# EAGLE library part CP2102N-A01-GQFN28R (library SLJ_IC)
USB Bridge, USB to UART USB 2.0 UART Interface 28-QFN (5x5)
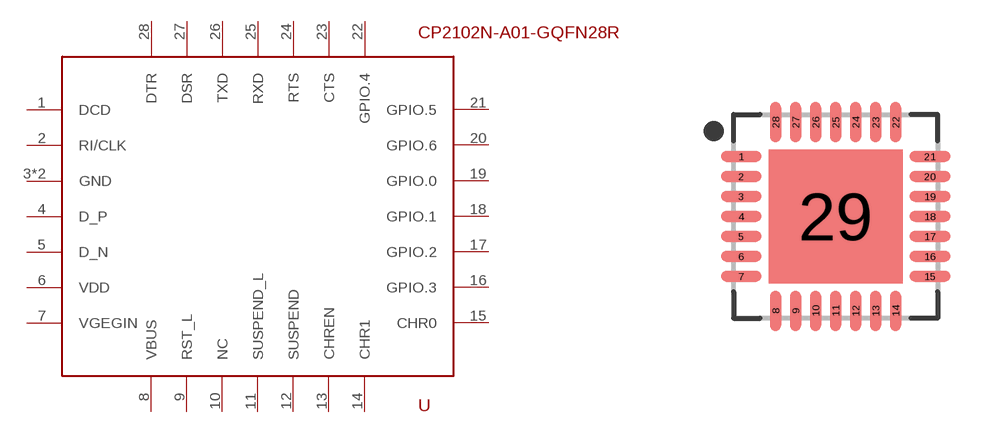
[diagram p1: symbol with the pads of QFN50P500X500X80-29T335; footprint QFN50P500X500X80-29T335]

Designator prefix U

## CP2102N-A01-GQFN28R (MANUFACTURER: Silicon Labs; PART_NUMBER: CP2102N-A01-GQFN28R)  [QFN50P500X500X80-29T335]
1  DCD  in
2  RI/CLK
3  GND  pwr
4  D_P
5  D_N
6  VDD  pwr
7  VGEGIN  pwr
8  VBUS  in
9  RST_L  in
10  NC  nc
11  SUSPEND_L  out
12  SUSPEND  out
13  CHREN  out
14  CHR1  out
15  CHR0  out
16  GPIO.3
17  GPIO.2
18  GPIO.1
19  GPIO.0
20  GPIO.6
21  GPIO.5
22  GPIO.4
23  CTS  in
24  RTS  out
25  RXD  in
26  TXD  out
27  DSR  in
28  DTR  out
29  GND  pwr

## Footprint QFN50P500X500X80-29T335 (pad centres in mm)
28-QFN, 0.50 mm pitch, 5.00 X 5.00 X 0.80 mm body, 3.35 X 3.35 mm thermal pad 28-pin QFN package with 0.50 mm pitch with body size 5.00 X 5.00 X 0.80 mm and thermal pad size 3.35 X 3.35 mm
smd 1.01 x 0.27: 1 -2.36,1.5; 2 -2.36,1; 3 -2.36,0.5; 4 -2.36,0; 5 -2.36,-0.5; 6 -2.36,-1; 7 -2.36,-1.5; 15 2.36,-1.5; 16 2.36,-1; 17 2.36,-0.5; 18 2.36,0; 19 2.36,0.5; 20 2.36,1; 21 2.36,1.5
smd 0.27 x 1.01: 8 -1.5,-2.36; 9 -1,-2.36; 10 -0.5,-2.36; 11 0,-2.36; 12 0.5,-2.36; 13 1,-2.36; 14 1.5,-2.36; 22 1.5,2.36; 23 1,2.36; 24 0.5,2.36; 25 0,2.36; 26 -0.5,2.36; 27 -1,2.36; 28 -1.5,2.36
smd 3.35 x 3.35: 29 0,0